# Altium footprint library Capacitores_PCBLIB.PcbLib: 27 footprints (part 1 of 2)
Each footprint in its own frame and in the unit in brackets; x right, y up, seen from the top. Pads: shape width x height; smd on the part's side, far side on the other; paste and mask are expansions set on the pad; w line width, h text height; cw(c..) or ccw(c..) is an arc to the next point about the centre after c.
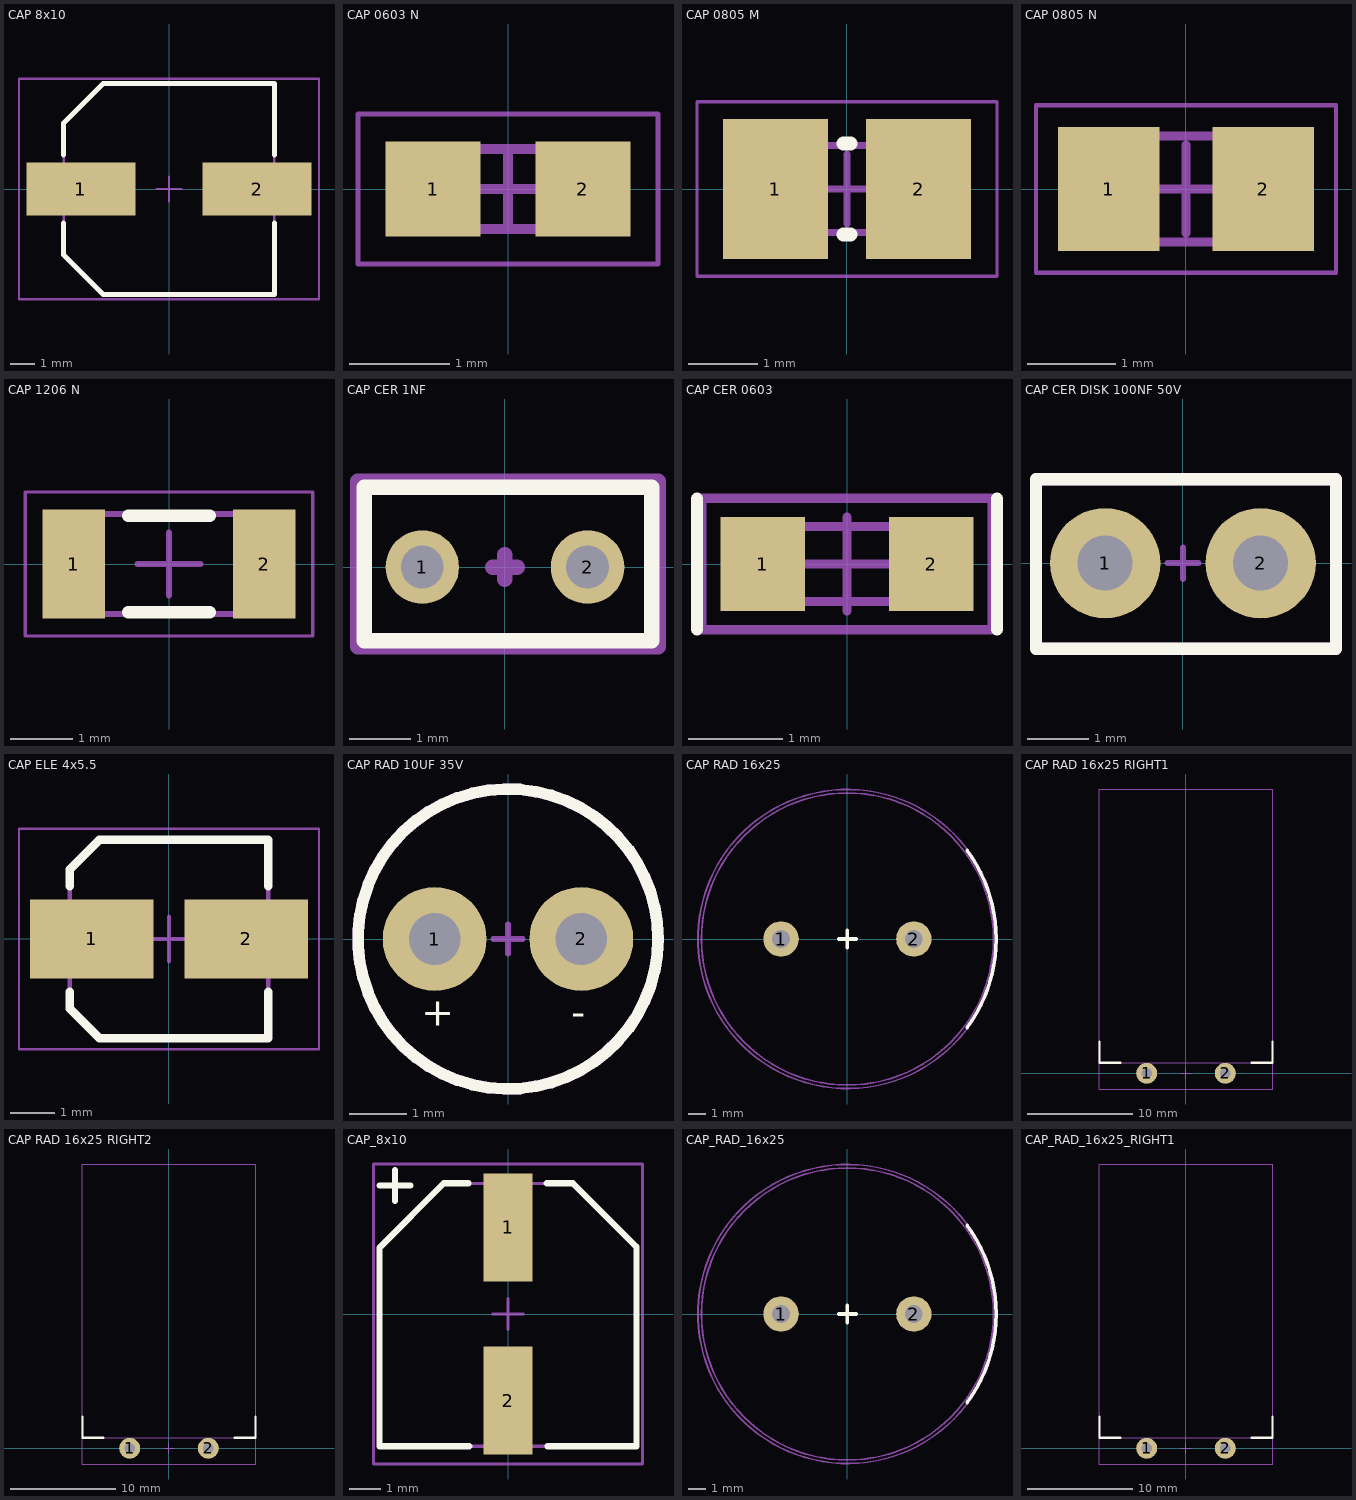
[diagram p0: the footprints below, top view; thin cyan lines are the x and y axes]

## CAP 8x10 [mm] "Aluminum Electrolytic Capacitor, Body 8,30x8,30x10,80mm, IPC Medium Density"
height 10.8
pads (2):
  rect 4.4x2.15 smd: 1(-3.55,0) 2(3.55,0)
Top Overlay:
  lines w0.2: -4.25,-1.375 -4.25,-2.663 -2.663,-4.25 4.25,-4.25 4.25,-1.375 ; -4.25,1.375 -4.25,2.662 -2.663,4.25 4.25,4.25 4.25,1.375
Mechanical 13:
  lines w0.1: -4.25,-2.663 -4.25,2.662 -2.663,4.25 4.25,4.25 4.25,-4.25 -2.663,-4.25 -4.25,-2.663
Mechanical 15:
  lines w0.1: -0.5,0 0.5,0 ; 0,-0.5 0,0.5 ; -6.05,-4.45 6.05,-4.45 6.05,4.45 -6.05,4.45 -6.05,-4.45
3D body "CAP_220uF_16V.STEP": height 11.23, standoff -0.2, extent -4.5,-4.15 4.5,4.15

## CAP 0603 N [mm] "Chip Capacitor, 2-Leads, Body 1,60x0,80mm, IPC Medium Density"
height 0.8
pads (2):
  rect 0.95x0.95 smd: 1(-0.75,0) 2(0.75,0)
Mechanical 13:
  lines w0.1: -0.8,-0.4 -0.8,0.4 0.8,0.4 0.8,-0.4 -0.8,-0.4
Mechanical 15:
  lines w0.05: -1.5,-0.75 -1.5,0.75 1.5,0.75 1.5,-0.75 -1.5,-0.75
  lines w0.1: -0.4,0 0.4,0 ; 0,-0.4 0,0.4
Mechanical 29:
  text ".Designator" at 0,0 h1
3D body "CAP 0603.STEP": height 0.8, standoff 0, extent -0.8,-0.4 0.8,0.4

## CAP 0805 M [mm] "Chip Capacitor, 2-Leads, Body 2,00x1,25mm, IPC Low Density"
height 0.94
pads (2):
  rect 1.5x2 smd: 1(-1.025,0) 2(1.025,0)
Top Overlay:
  lines w0.2: -0.05,-0.65 0.05,-0.65 ; -0.05,0.65 0.05,0.65
Mechanical 13:
  lines w0.1: -1,-0.625 -1,0.625 1,0.625 1,-0.625 -1,-0.625
Mechanical 15:
  lines w0.05: -2.15,-1.25 -2.15,1.25 2.15,1.25 2.15,-1.25 -2.15,-1.25
  lines w0.1: -0.5,0 0.5,0 ; 0,-0.5 0,0.5
3D body "CAPC2012X09M.step": height 0.94, standoff 0, extent -1,-0.625 1,0.625

## CAP 0805 N [mm] "Chip Capacitor, 2-Leads, Body 2,00x1,25mm, IPC Medium Density"
height 0.85
pads (2):
  rect 1.15x1.4 smd: 1(-0.875,0) 2(0.875,0)
Mechanical 13:
  lines w0.1: -1,-0.6 -1,0.6 1,0.6 1,-0.6 -1,-0.6
Mechanical 15:
  lines w0.05: -1.7,-0.95 -1.7,0.95 1.7,0.95 1.7,-0.95 -1.7,-0.95
  lines w0.1: -0.5,0 0.5,0 ; 0,-0.5 0,0.5
Mechanical 29:
  text ".Designator" at 0,0 h1
3D body "CAP 0805.STEP": height 0.85, standoff 0, extent -1,-0.6 1,0.6

## CAP 1206 N [mm] "Chip Capacitor, 2-Leads, Body 3,20x1,60mm, IPC Medium Density"
height 1.9
pads (2):
  rect 1x1.75 smd: 1(-1.525,0) 2(1.525,0)
Top Overlay:
  lines w0.2: -0.65,-0.775 0.65,-0.775 ; -0.65,0.775 0.65,0.775
Mechanical 13:
  lines w0.1: -1.6,-0.8 -1.6,0.8 1.6,0.8 1.6,-0.8 -1.6,-0.8
Mechanical 15:
  lines w0.05: -2.3,-1.15 -2.3,1.15 2.3,1.15 2.3,-1.15 -2.3,-1.15
  lines w0.1: -0.5,0 0.5,0 ; 0,-0.5 0,0.5
Mechanical 29:
  text ".Designator" at 0,0 h1
3D body "CAP 1206.STEP": height 1.9, standoff 0, extent -1.6,-0.8 1.6,0.8

## CAP CER 1NF [mm]
pads (2):
  round 1.2 hole 0.7: 1(-1.35,0) 2(1.35,0)
Top Overlay:
  lines w0.254: -2.3,-1.2 -2.3,1.2 -2.3,1.3 2.4,1.3 2.4,-1.2 -2.3,-1.2
Mechanical 15:
  lines w0.254: -0.2,0 0.2,0 ; 0,-0.2 0,0.2 ; -2.4,-1.3 -2.4,1.4 2.5,1.4 2.5,-1.3 -2.4,-1.3
3D body "10pF Ceramic Disc 2.STEP": height 7.35, standoff -6.68, extent -2.3,-1.25 2.4,1.25

## CAP CER 0603 [mm] "CAP CER 0603"
pads (2):
  rect 0.9x1 smd: 1(-0.9,0) 2(0.9,0)
Top Overlay:
  lines w0.127: -1.6,-0.7 -1.6,0.7 ; 1.6,-0.7 1.6,0.7
Mechanical 13:
  lines w0.1: -0.8,0.4 -0.8,-0.4 ; -0.775,0.4 0.8,0.4 0.8,-0.4 -0.8,-0.4 ; -0.8,-0.4 -0.8,-0.4
Mechanical 15:
  lines w0.1: -0.5,0 0.5,0 ; 0,-0.5 0,0.5 ; -1.55,-0.7 -1.55,0.7 1.55,0.7 1.55,-0.7 -1.55,-0.7
Mechanical 29:
  text ".Designator" at -1.4,1.05 h0.5
3D body "C0603.STEP": height 0.8, standoff 0, extent -0.8,-0.4 0.8,0.4

## CAP CER DISK 100NF 50V [mm] "Connector; Header; 5 Position"
pads (2):
  round 1.8 hole 0.9: 1(-1.27,0) 2(1.27,0)
Top Overlay:
  lines w0.2: -2.4,-1.397 -2.4,1.37 2.5,1.37 2.5,-1.397 -2.4,-1.397
Mechanical 15:
  lines w0.1: -0.254,0 0.254,0 ; 0,-0.254 0,0.254
  lines w0.2: -2.4,-1.397 2.5,-1.397 2.5,1.37 -2.4,1.37 -2.4,-1.397
Mechanical 29:
  text ".Designator" at -2.2,1.8 h0.5
  text "1" at -0.4,-1.1 h0.5
3D body "CAP_Ceramic.STEP": height 6.1, standoff -3.93, extent -2.28,-1.25 2.42,1.25

## CAP ELE 4x5.5 [mm] "Aluminum Electrolytic Capacitor, Body 4,30x4,30x5,50mm, IPC Low Density"
height 5.5
pads (2):
  rect 2.8x1.8 smd: 1(-1.75,0) 2(1.75,0)
Top Overlay:
  lines w0.2: -2.25,-1.2 -2.25,-1.575 -1.575,-2.25 2.25,-2.25 2.25,-1.2 ; -2.25,1.2 -2.25,1.575 -1.575,2.25 2.25,2.25 2.25,1.2
Mechanical 13:
  lines w0.1: -2.25,-1.575 -1.575,-2.25 2.25,-2.25 2.25,2.25 -1.575,2.25 -2.25,1.575 -2.25,-1.575
Mechanical 15:
  lines w0.05: -3.4,-2.5 -3.4,2.5 3.4,2.5 3.4,-2.5 -3.4,-2.5
  lines w0.1: -0.5,0 0.5,0 ; 0,-0.5 0,0.5
3D body "CAPAE4643X55M.step": height 5.5, standoff 0, extent -2.325,-2.25 2.325,2.25

## CAP RAD 10UF 35V [mm]
pads (2):
  round 1.8 hole 0.9: 1(-1.27,0) 2(1.27,0)
Top Overlay:
  circle w0.2: c0,0 r2.6
  text "+" at -1.5,-1.5 h0.5
  text "-" at 1.1,-1.5 h0.5
Mechanical 15:
  circle w0.2: c0,0 r2.6
  lines w0.1: -0.254,0 0.254,0 ; 0,-0.254 0,0.254
Mechanical 29:
  text ".Designator" at -2.4,3 h0.5
  text "+" at -1.5,-1.5 h0.5
  text "-" at 1.1,-1.5 h0.5
3D body "CAP ELE PTH.STEP": height 12.2, standoff -1.7, extent -2.5,-2.5 2.5,2.5

## CAP RAD 16x25 [mm] "CAP RAD 16x25"
height 25
pads (2):
  round 2 hole 1: 1(-3.75,0) 2(3.75,0)
Top Overlay:
  lines w0.2: -0.5,0 0.5,0 ; 0,-0.5 0,0.5 ; 6.758,-5.006 ccw(c-0.05,0) 6.758,5.006
Mechanical 13:
  circle w0.1: c0,0 r8.25
Mechanical 15:
  circle w0.1: c0,0 r8.45
  lines w0.1: -0.5,0 0.5,0 ; 0,-0.5 0,0.5
Mechanical 29:
  text ".Designator" at 0,0 h1
3D body "CAP_RAD_16x25.STEP": height 25.4, standoff -3.5, extent -8.25,-8.25 8.25,8.25

## CAP RAD 16x25 RIGHT1 [mm] "CAP RAD 16x25 RIGHT1"
height 16
pads (2):
  round 2 hole 1: 1(-3.75,0) 2(3.75,0)
Top Overlay:
  lines w0.2: -8.25,3 -8.25,1 -6.25,1 ; 6.25,1 8.25,1 8.25,3
Mechanical 13:
  lines w0.1: -8.25,1 8.25,1 8.25,27.1 -8.25,27.1 -8.25,1
Mechanical 15:
  lines w0.1: -8.25,3 -8.25,-1.5 -3.75,-1.5 8.25,-1.5 8.25,3 ; -0.5,0 0.5,0 ; 0,-0.5 0,0.5
Mechanical 29:
  text ".Designator" at 0,0 h1
3D body "CAP_RAD_16x25_RIGHT1.STEP": height 16.75, standoff -2.55, extent -8.25,-0.4 8.25,27.1

## CAP RAD 16x25 RIGHT2 [mm] "CAP RAD 16x25 RIGHT2"
height 16
pads (2):
  round 2 hole 1: 1(-3.75,0) 2(3.75,0)
Top Overlay:
  lines w0.2: -8.25,3 -8.25,1 -6.25,1 ; 6.25,1 8.25,1 8.25,3
Mechanical 13:
  lines w0.1: -8.25,1 -8.25,27.1 8.25,27.1 8.25,1 -8.25,1
Mechanical 15:
  lines w0.1: -8.25,3 -8.25,-1.5 -3.75,-1.5 8.25,-1.5 8.25,3 ; -0.5,0 0.5,0 ; 0,-0.5 0,0.5
Mechanical 29:
  text ".Designator" at 0,0 h1
3D body "CAP_RAD_16x25_RIGHT2.STEP": height 16.75, standoff -2.55, extent -8.25,-0.4 8.25,27.1

## CAP_8x10 [mm]
pads (2):
  rect 1.6x3.5 smd: 1(0,2.8) 2(0,-2.8)
Top Overlay:
  lines w0.2: -4.15,4.15 -3.15,4.15 ; -3.65,3.65 -3.65,4.65 ; -1.275,4.225 -2.075,4.225 -4.15,2.15 -4.15,-4.275 -1.25,-4.275 ; 1.25,4.225 2.1,4.225 4.15,2.175 4.15,-4.275 1.275,-4.275
Mechanical 13:
  lines w0.1: -4.15,-4.275 4.15,-4.275 4.15,2.175 2.1,4.225 -2.075,4.225 -4.15,2.15 -4.15,-4.275
Mechanical 15:
  lines w0.1: -0.5,0 0.5,0 ; 0,-0.5 0,0.5 ; -4.35,-4.85 -4.35,4.85 4.35,4.85 4.35,-4.85 -4.35,-4.85
3D body "CAP_8x10.STEP": height 10.71, standoff 0, extent -4.15,-4.275 4.15,4.225

## CAP_RAD_16x25 [mm] "CAP_RAD_16x25"
height 25
pads (2):
  round 2 hole 1: 1(-3.75,0) 2(3.75,0)
Top Overlay:
  lines w0.2: -0.5,0 0.5,0 ; 0,-0.5 0,0.5 ; 6.758,-5.006 ccw(c-0.05,0) 6.758,5.006
Mechanical 13:
  circle w0.1: c0,0 r8.25
Mechanical 15:
  circle w0.1: c0,0 r8.45
  lines w0.1: -0.5,0 0.5,0 ; 0,-0.5 0,0.5
3D body "CAP_RAD_16x25.STEP": height 25.4, standoff -3.5, extent -8.25,-8.25 8.25,8.25

## CAP_RAD_16x25_RIGHT1 [mm] "CAP_RAD_16x25__RIGHT1"
height 16
pads (2):
  round 2 hole 1: 1(-3.75,0) 2(3.75,0)
Top Overlay:
  lines w0.2: -8.25,3 -8.25,1 -6.25,1 ; 6.25,1 8.25,1 8.25,3
Mechanical 13:
  lines w0.1: -8.25,1 8.25,1 8.25,27.1 -8.25,27.1 -8.25,1
Mechanical 15:
  lines w0.1: -8.25,3 -8.25,-1.5 -3.75,-1.5 8.25,-1.5 8.25,3 ; -0.5,0 0.5,0 ; 0,-0.5 0,0.5
3D body "CAP_RAD_16x25_RIGHT1.STEP": height 16.75, standoff -2.55, extent -8.25,-0.4 8.25,27.1